# Altium schematic symbol library UCC23513QDWYRQ1.SchLib: 1 symbol
Pins are listed as number, name and electrical type; pins without a type are passive.

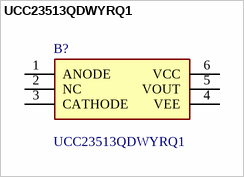
[diagram p0: symbol UCC23513QDWYRQ1]

## UCC23513QDWYRQ1
designator B?
Gate Drivers Automotive 4-A source, 5-A sink, 5.7-kVRMS opto-compatible single-channel isolated gate driver 6-SOIC -40 to 125; Manufacturer_Name: Texas Instruments; Geometry.Height: 3.55mm; Manufacturer_Part_Number: UCC23513QDWYRQ1; Mouser Part Number: 595-UCC23513QDWYRQ1; Mouser Price/Stock: https://www.mouser.co.uk/ProductDetail/Texas-Instruments/UCC23513QDWYRQ1?qs=DRkmTr78QAQFOTnNqSLksg%3D%3D; Arrow Part Number: UCC23513QDWYRQ1; Arrow Price/Stock: https://www.arrow.com/en/products/ucc23513qdwyrq1/texas-instruments?region=nac; Datasheet Link: https://www.ti.com/lit/ds/symlink/ucc23513-q1.pdf?ts=1619871207992&ref_url=https%253A%252F%252Feu.mouser.com%252F
footprint SOIC127P1150X355-6N
pins: 1 ANODE, 2 NC, 3 CATHODE, 4 VEE, 5 VOUT, 6 VCC